# Altium footprint library StandardDevices.PcbLib: 59 footprints (part 1 of 4)
Each footprint in its own frame and in the unit in brackets; x right, y up, seen from the top. Pads: shape width x height; smd on the part's side, far side on the other; paste and mask are expansions set on the pad; w line width, h text height; cw(c..) or ccw(c..) is an arc to the next point about the centre after c.
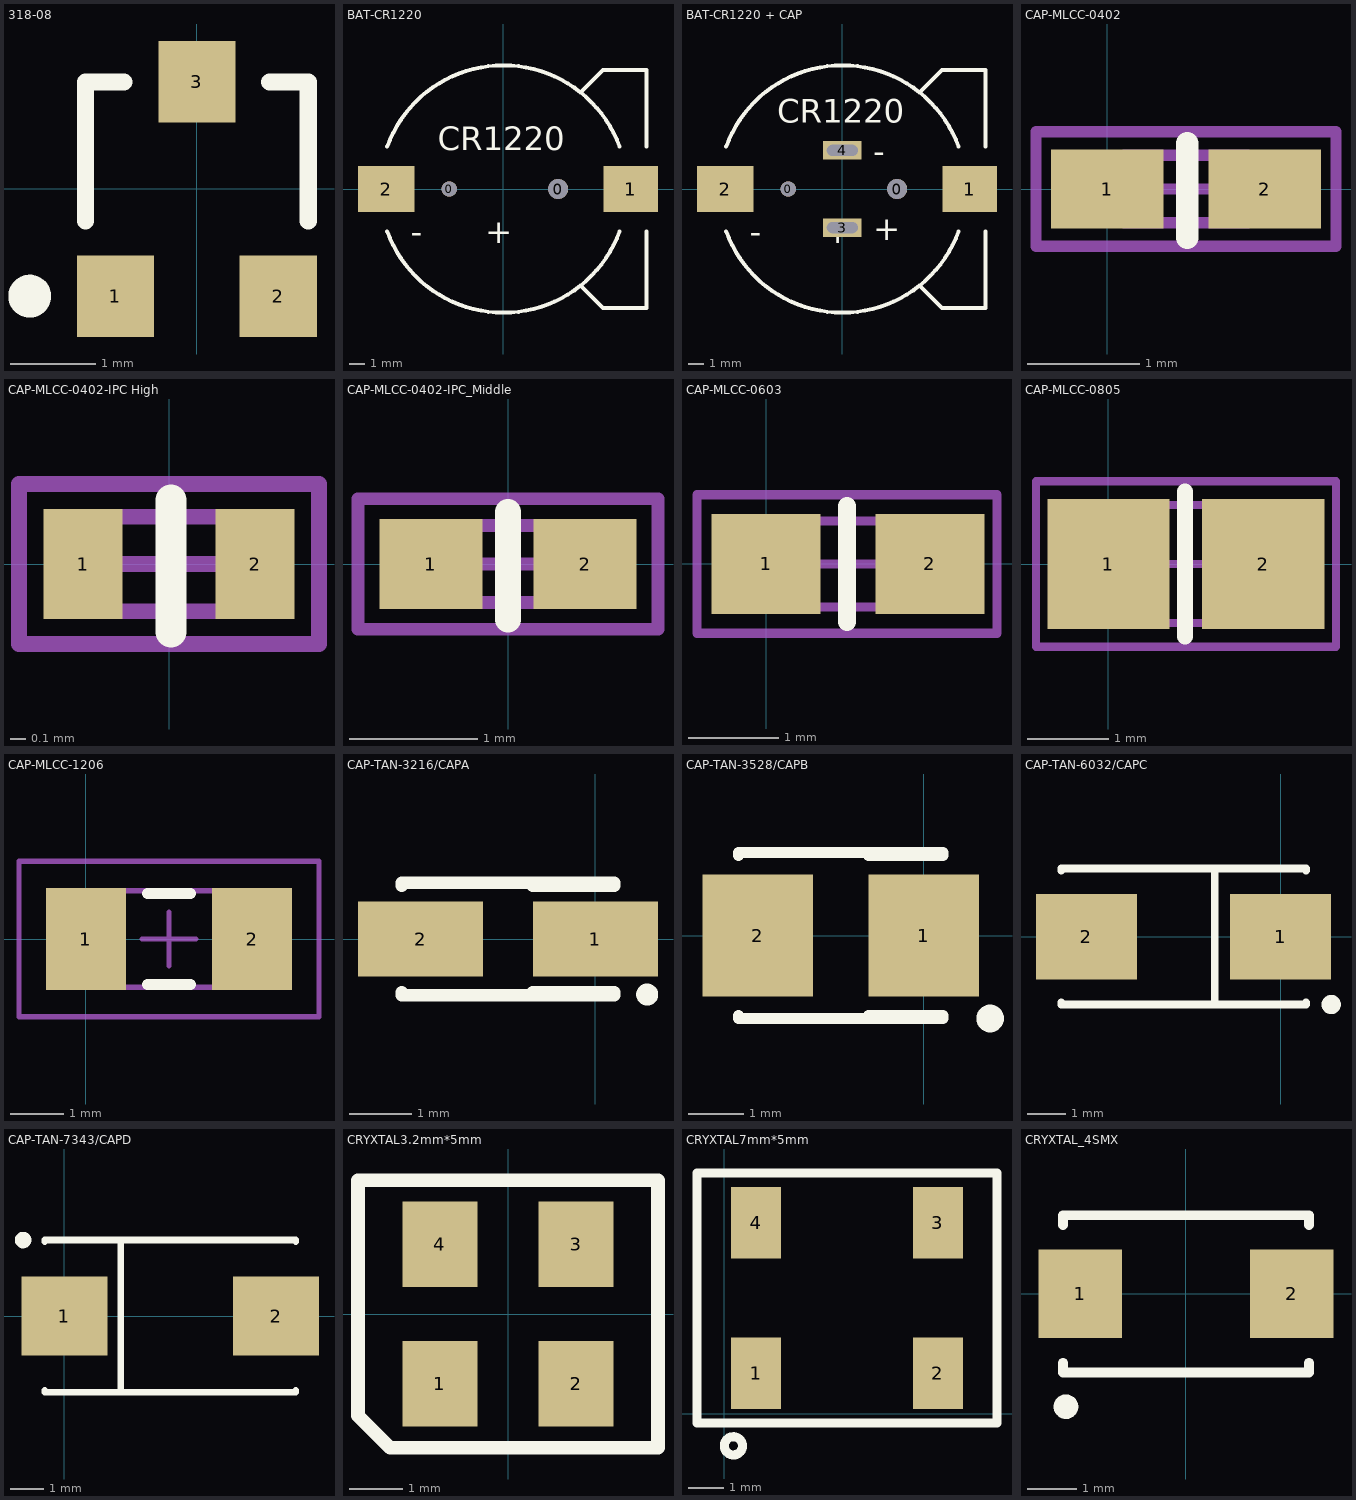
[diagram p0: the footprints below, top view; thin cyan lines are the x and y axes]

## 318-08 [mm] "SOT-23; 3 Leads; Body 3.0 x 2.6 mm, inc. leads (LxW max)"
height 1.11
pads (3):
  rect 0.9x0.95 smd: 1(-0.95,-1.25) 2(0.95,-1.25) 3(0,1.25)
Top Overlay:
  circle w0.25: c-1.95,-1.25 r0.125
  lines w0.2: -1.3,-0.375 -1.3,1.25 -0.85,1.25 ; 0.85,1.25 1.3,1.25 1.3,-0.375

## BAT-CR1220 [mm] "CR1220 battery holder"
height 4
pads (4):
  round 1 hole 1: 0(-3.5,0)
  round 1.3 hole 1.3: 0(3.54,0)
  rect 3.54x3 smd: 1(8.23,0)
  rect 3.66x3 smd: 2(-7.57,0)
Top Overlay:
  lines w0.254: -7.518,-2.736 ccw(c0,0) 7.518,-2.736 ; -7.518,2.736 cw(c0,0) 7.518,2.736 ; 5,-6.25 6.45,-7.7 9.25,-7.7 9.25,-2.75 ; 5,6.25 6.45,7.7 9.25,7.7 9.25,2.75
  text "-      +" at -6,-3.5 h1.52
  text "CR1220" at -4.25,2.5 h1.52

## BAT-CR1220 + CAP [mm] "CR1220 battery holder + Panansonic F series double layer cap"
height 4
pads (6):
  round 1 hole 1: 0(-3.5,0)
  round 1.3 hole 1.3: 0(3.54,0)
  rect 3.54x3 smd: 1(8.23,0)
  rect 3.66x3 smd: 2(-7.57,0)
  rect 2.5x1.2 hole 0.7 slot 2 at 0 deg: 3(0,-2.5) 4(0,2.5)
Top Overlay:
  lines w0.254: -7.518,-2.736 ccw(c0,0) 7.518,-2.736 ; -7.518,2.736 cw(c0,0) 7.518,2.736 ; 5,-6.25 6.45,-7.7 9.25,-7.7 9.25,-2.75 ; 5,6.25 6.45,7.7 9.25,7.7 9.25,2.75
  text "CR1220" at -4.2,4.3 h1.52
  text "-      +" at -6,-3.5 h1.52
  text "-" at 2,1.7 h1.52
  text "+" at 2,-3.3 h1.52

## CAP-MLCC-0402 [mm]
pads (2):
  rect 1x0.7 smd: 1(0,0) 2(1.4,0)
Top Overlay:
  lines w0.2: 0.711,-0.432 0.711,0.406
Mechanical 13:
  lines w0.1: 0.15,-0.3 0.15,0.3 1.25,0.3 1.25,-0.3 0.15,-0.3
Mechanical 15:
  lines w0.1: 0.4,0 1,0 ; 0.7,-0.3 0.7,0.3 ; -0.635,-0.508 -0.635,0.508 2.032,0.508 2.032,-0.508 -0.635,-0.508
3D body: height 0.6, standoff 0, extent 0.15,-0.3 1.25,0.3

## CAP-MLCC-0402-IPC High [mm]
pads (2):
  rect 0.5x0.7 smd: 1(-0.546,0) 2(0.546,0)
Top Overlay:
  lines w0.2: 0.013,-0.432 0.013,0.406
Mechanical 13:
  lines w0.1: -0.549,-0.3 0.552,-0.3 0.552,0.3 -0.549,0.3 -0.549,-0.3
Mechanical 15:
  lines w0.1: -0.299,0 0.302,0 ; 0.002,-0.3 0.002,0.3 ; -0.953,-0.508 -0.953,0.508 0.953,0.508 0.953,-0.508 -0.953,-0.508
3D body: height 0.6, standoff 0, extent -0.549,-0.3 0.551,0.3

## CAP-MLCC-0402-IPC_Middle [mm]
pads (2):
  rect 0.8x0.7 smd: 1(-0.6,0) 2(0.6,0)
Top Overlay:
  lines w0.2: 0,-0.432 0,0.406
Mechanical 13:
  lines w0.1: -0.55,-0.3 -0.55,0.3 0.55,0.3 0.55,-0.3 -0.55,-0.3
Mechanical 15:
  lines w0.1: -0.3,0 0.3,0 ; 0,-0.3 0,0.3 ; -1.168,-0.508 -1.168,0.508 1.168,0.508 1.168,-0.508 -1.168,-0.508
3D body: height 0.6, standoff 0, extent -0.55,-0.3 0.55,0.3

## CAP-MLCC-0603 [mm]
pads (2):
  rect 1.2x1.1 smd: 1(0,0) 2(1.8,0)
Top Overlay:
  lines w0.2: 0.889,-0.635 0.889,0.635
Mechanical 13:
  lines w0.1: 0.025,-0.475 0.025,0.475 1.775,0.475 1.775,-0.475 0.025,-0.475
Mechanical 15:
  lines w0.1: 0.425,0 1.375,0 ; 0.9,-0.475 0.9,0.475 ; -0.762,-0.762 -0.762,0.762 2.54,0.762 2.54,-0.762 -0.762,-0.762
3D body: height 0.85, standoff 0, extent 0.025,-0.475 1.775,0.475

## CAP-MLCC-0805 [mm]
pads (2):
  rect 1.5x1.6 smd: 1(0,0) 2(1.9,0)
Top Overlay:
  lines w0.2: 0.94,-0.889 0.94,0.889
Mechanical 13:
  lines w0.1: -0.15,-0.725 -0.15,0.725 2.05,0.725 2.05,-0.725 -0.15,-0.725
Mechanical 15:
  lines w0.1: 0.45,0 1.45,0 ; 0.95,-0.5 0.95,0.5 ; -0.889,-1.016 -0.889,1.016 2.794,1.016 2.794,-1.016 -0.889,-1.016
3D body: height 1.1, standoff 0, extent -0.15,-0.725 2.05,0.725

## CAP-MLCC-1206 [mm]
pads (2):
  rect 1.5x1.9 smd: 1(0,0) 2(3.1,0)
Top Overlay:
  lines w0.2: 1.15,-0.85 1.95,-0.85 ; 1.15,0.85 1.95,0.85
Mechanical 13:
  lines w0.1: -0.15,-0.9 -0.15,0.9 3.25,0.9 3.25,-0.9 -0.15,-0.9
Mechanical 15:
  lines w0.1: 1.05,0 2.05,0 ; 1.55,-0.5 1.55,0.5 ; -1.25,-1.45 -1.25,1.45 4.35,1.45 4.35,-1.45 -1.25,-1.45
3D body: height 1.35, standoff 0, extent -0.15,-0.9 3.25,0.9

## CAP-TAN-3216/CAPA [mm]
pads (2):
  rect 2x1.2 smd: 1(0,0) 2(-2.8,0)
Top Overlay:
  circle w0.25: c0.827,-0.889 r0.051
  lines w0.2: -3.1,-0.85 -3.1,-0.9 0.3,-0.9 ; -3.1,0.85 -3.1,0.9 0.3,0.9 ; -1,-0.85 0.3,-0.85 ; -1,0.85 0.3,0.85

## CAP-TAN-3528/CAPB [mm]
pads (2):
  rect 2x2.2 smd: 1(0,0) 2(-3,0)
Top Overlay:
  circle w0.25: c1.2,-1.5 r0.125
  lines w0.2: -3.35,-1.45 -3.35,-1.5 0.35,-1.5 ; -3.35,1.45 -3.35,1.5 0.35,1.5 ; -1,-1.45 0.35,-1.45 ; -1,1.45 0.35,1.45

## CAP-TAN-6032/CAPC [mm]
pads (2):
  rect 2.6x2.2 smd: 1(0,0) 2(-5,0)
Top Overlay:
  circle w0.25: c1.3,-1.75 r0.125
  lines w0.2: -5.65,-1.7 -5.65,-1.75 0.65,-1.75 0.65,-1.7 ; -5.65,1.7 -5.65,1.75 0.65,1.75 0.65,1.7 ; -1.7,-1.75 -1.7,1.75

## CAP-TAN-7343/CAPD [mm]
pads (2):
  rect 2.6x2.4 smd: 1(0,0) 2(6.4,0)
Top Overlay:
  circle w0.25: c-1.25,2.3 r0.125
  lines w0.2: -0.6,-2.25 -0.6,-2.3 7,-2.3 7,-2.25 ; -0.6,2.25 -0.6,2.3 7,2.3 7,2.25 ; 1.7,-2.3 1.7,2.3

## CRYXTAL3.2mm*5mm [mm]
pads (4):
  rect 1.4x1.6 smd: 1(-1.27,-1.3) 2(1.27,-1.3) 3(1.27,1.3) 4(-1.27,1.3)
Top Overlay:
  lines w0.254: -2.8,-1.9 -2.8,2.5 2.8,2.5 2.8,-2.5 -2.2,-2.5 -2.8,-1.9
3D body: height 0.6, standoff 0, extent -2.5,-1.6 2.5,1.6

## CRYXTAL7mm*5mm [mm]
pads (4):
  rect 1.4x2 smd: 1(0.889,1.143) 2(5.969,1.143) 3(5.969,5.343) 4(0.889,5.343)
Top Overlay:
  circle w0.254: c0.254,-0.889 r0.254
  lines w0.254: -0.762,-0.254 -0.762,6.731 7.62,6.731 7.62,-0.254 -0.762,-0.254

## CRYXTAL_4SMX [mm] "Quartz Crystal, SM; Body 5.2 x 3.4 mm (LxW max)"
height 1
pads (2):
  rect 1.7x1.8 smd: 1(-2.15,0) 2(2.15,0)
Top Overlay:
  circle w0.25: c-2.441,-2.293 r0.125
  lines w0.2: -2.5,-1.4 -2.5,-1.6 2.5,-1.6 2.5,-1.4 ; -2.5,1.4 -2.5,1.6 2.5,1.6 2.5,1.4